# Altium footprint library PcbLib1.PcbLib: 11 footprints
Each footprint in its own frame and in the unit in brackets; x right, y up, seen from the top. Pads: shape width x height; smd on the part's side, far side on the other; paste and mask are expansions set on the pad; w line width, h text height; cw(c..) or ccw(c..) is an arc to the next point about the centre after c.
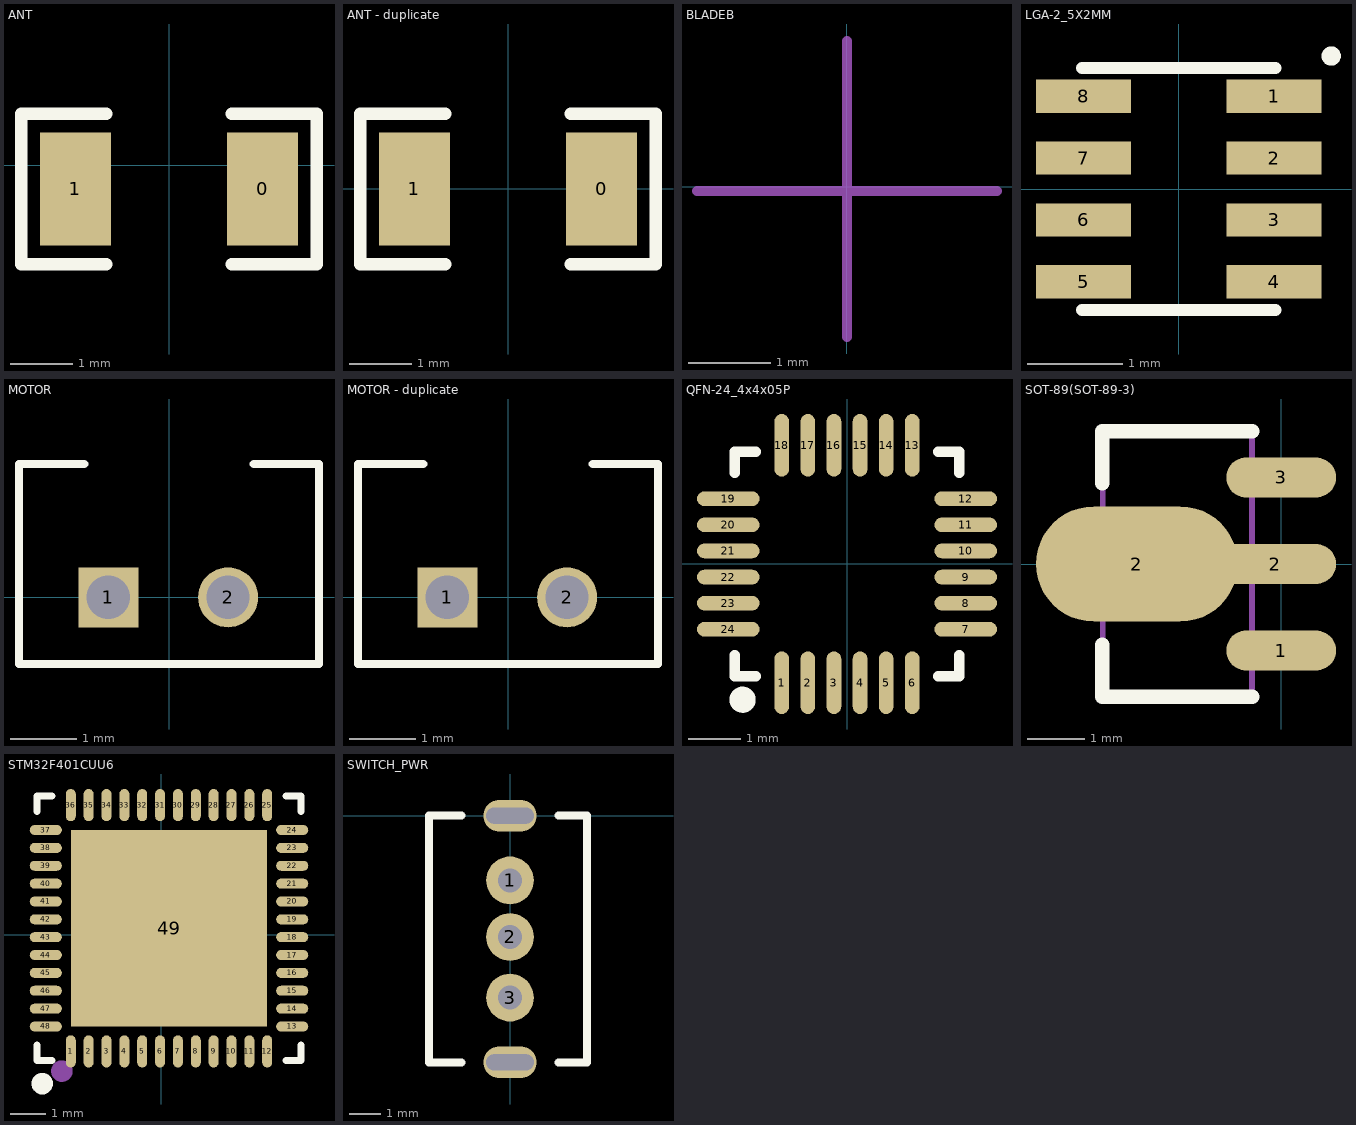
[diagram p0: the footprints below, top view; thin cyan lines are the x and y axes]

## 720Motor [mm]
3D body "720空心杯电机.STEP": height 20.3, standoff -8.9, extent -4.496,-4.496 4.504,4.504

## ANT [mm]
pads (2):
  rect 1.13x1.8 smd: 0(1.49,-0.381) 1(-1.49,-0.381)
Top Overlay:
  lines w0.2: -1,-1.581 -2.355,-1.581 -2.355,0.819 -1,0.819 ; 1,-1.581 2.355,-1.581 2.355,0.819 1,0.819
3D body "C1808.STEP": height 0.88, standoff -0.02, extent -2.25,-1.381 2.25,0.619

## ANT - duplicate [mm]
pads (2):
  rect 1.13x1.8 smd: 0(1.49,0) 1(-1.49,0)
Top Overlay:
  lines w0.2: -1,-1.2 -2.355,-1.2 -2.355,1.2 -1,1.2 ; 1,-1.2 2.355,-1.2 2.355,1.2 1,1.2
3D body "C1808.STEP": height 0.88, standoff -0.02, extent -2.25,-1 2.25,1

## BLADEB [mm]
Mechanical 15:
  lines w0.12: -1.829,-0.051 0,-0.051 ; 0,-1.829 0,0 ; 0,1.778 0,-0.051 ; 1.829,-0.051 0,-0.051
3D body "B桨叶.STEP": height 20, standoff 15, extent -27.5,-3.997 27.5,3.997

## LGA-2_5X2MM [mm]
pads (8):
  rect 1x0.35 smd: 1(1.001,0.975) 2(1.001,0.325) 3(1.001,-0.325) 4(1.001,-0.975) 5(-1.001,-0.975) 6(-1.001,-0.325) 7(-1.001,0.325) 8(-1.001,0.975)
Top Overlay:
  circle w0.102: c1.6,1.397 r0.051
  lines w0.127: -1.016,-1.27 1.016,-1.27 ; -1.016,1.27 1.016,1.27
3D body: height 0.9, standoff 0.01, extent -1.086,-1.346 1.092,1.314

## MOTOR [mm]
pads (2):
  rect 0.9x0.9 hole 0.65: 1(-0.911,0)
  round 0.9 hole 0.65: 2(0.886,0)
Top Overlay:
  lines w0.127: -1.27,2 -2.25,2 -2.25,-1 2.25,-1 2.25,2 1.27,2
3D body "电机插座.STEP": height 5, standoff -1.5, extent -2.092,-1.194 2.108,2.006

## MOTOR - duplicate [mm]
pads (2):
  rect 0.9x0.9 hole 0.65: 1(-0.911,0)
  round 0.9 hole 0.65: 2(0.886,0)
Top Overlay:
  lines w0.127: -1.27,2 -2.25,2 -2.25,-1 2.25,-1 2.25,2 1.27,2
3D body "电机插座.STEP": height 5, standoff -1.5, extent -2.092,-1.194 2.108,2.006

## QFN-24_4x4x05P [mm]
height 1
pads (24):
  oval 0.28x1.2 smd mask+0.051: 1(-1.25,-2.273) 2(-0.75,-2.273) 3(-0.25,-2.273) 4(0.25,-2.273) 5(0.75,-2.273) 6(1.25,-2.273) 13(1.25,2.273) 14(0.75,2.273) 15(0.25,2.273) 16(-0.25,2.273) 17(-0.75,2.273) 18(-1.25,2.273)
  oval 1.2x0.28 smd mask+0.051: 7(2.273,-1.25) 8(2.273,-0.75) 9(2.273,-0.25) 10(2.273,0.25) 11(2.273,0.75) 12(2.273,1.25) 19(-2.273,1.25) 20(-2.273,0.75) 21(-2.273,0.25) 22(-2.273,-0.25) 23(-2.273,-0.75) 24(-2.273,-1.25)
Top Overlay:
  circle w0.25: c-2,-2.6 r0.125
  lines w0.2: -2.15,-1.75 -2.15,-2.15 -1.75,-2.15 ; -2.15,1.75 -2.15,2.15 -1.75,2.15 ; 1.75,-2.15 2.15,-2.15 2.15,-1.75 ; 1.75,2.15 2.15,2.15 2.15,1.75
3D body: height 0.9, standoff 0.01, extent -2,-2 2,2

## SOT-89(SOT-89-3) [mm]
pads (4):
  oval 1.9x0.7 smd: 1(0,-1.5) 3(0,1.5)
  oval 3.5x2 smd: 2(-2.5,0)
  oval 2.1x0.7 smd: 2(-0.1,0)
Top Overlay:
  lines w0.254: -3.1,-1.4 -3.1,-2.3 -0.5,-2.3 ; -3.1,1.4 -3.1,2.3 -0.5,2.3
Mechanical 13:
  lines w0.1: -3.095,-2.3 -0.505,-2.3 -0.505,2.3 -3.095,2.3 -3.095,-2.3
3D body "SOT-89-3.STEP": height 1.51, standoff 0, extent -3.75,-2.25 0.55,2.25

## STM32F401CUU6 [mm]
pads (49):
  oval 0.28x0.9 smd: 1(-2.535,-3.266) 2(-2.034,-3.266) 3(-1.534,-3.266) 4(-1.033,-3.266) 5(-0.533,-3.266) 6(-0.033,-3.266) 7(0.465,-3.266) 8(0.966,-3.266) 9(1.466,-3.266) 10(1.966,-3.266) 11(2.467,-3.266) 12(2.967,-3.266) 25(2.967,3.632) 26(2.467,3.632) 27(1.966,3.632) 28(1.466,3.632) 29(0.966,3.632) 30(0.465,3.632) 31(-0.033,3.632) 32(-0.533,3.632) 33(-1.033,3.632) 34(-1.534,3.632) 35(-2.034,3.632) 36(-2.535,3.632)
  oval 0.9x0.28 smd: 13(3.666,-2.568) 14(3.666,-2.067) 15(3.666,-1.567) 16(3.666,-1.067) 17(3.666,-0.566) 18(3.666,-0.066) 19(3.666,0.432) 20(3.666,0.932) 21(3.666,1.433) 22(3.666,1.933) 23(3.666,2.434) 24(3.666,2.934) 37(-3.233,2.934) 38(-3.233,2.434) 39(-3.233,1.933) 40(-3.233,1.433) 41(-3.233,0.932) 42(-3.233,0.432) 43(-3.233,-0.066) 44(-3.233,-0.566) 45(-3.233,-1.067) 46(-3.233,-1.567) 47(-3.233,-2.067) 48(-3.233,-2.568)
  rect 5.5x5.5 smd: 49(0.216,0.183)
Top Overlay:
  lines w0.2: -3.484,-3.092 -3.484,-3.517 -3.059,-3.517 ; -3.484,3.458 -3.484,3.883 -3.059,3.883 ; 3.491,-3.517 3.916,-3.517 3.916,-3.092 ; 3.491,3.883 3.916,3.883 3.916,3.458
  lines w0.3: -3.335,-4.018 ccw(c-3.333,-4.168) -3.332,-4.018
Mechanical 15:
  circle w0.3: c-2.784,-3.817 r0.15

## SWITCH_PWR [mm]
height 5
pads (5):
  round 1.5 hole 0.75: 1(0,-2.032) 2(0,-3.81) 3(0,-5.715)
  oval 1.676x1 hole 0.5 slot 1.5 at 0 deg: ""(0,0) ""(0,-7.747)
Top Overlay:
  lines w0.25: -1.524,-7.747 -2.54,-7.747 -2.54,0 -1.524,0 ; 1.524,-7.747 2.413,-7.747 2.413,0 1.524,0
3D body "3.681.STEP": height 6.5, standoff -5, extent -1.85,-8.06 1.85,0.44